# Altium footprint library CADDX_passthrough.PcbLib: 5 footprints
Each footprint in its own frame and in the unit in brackets; x right, y up, seen from the top. Pads: shape width x height; smd on the part's side, far side on the other; paste and mask are expansions set on the pad; w line width, h text height; cw(c..) or ccw(c..) is an arc to the next point about the centre after c.
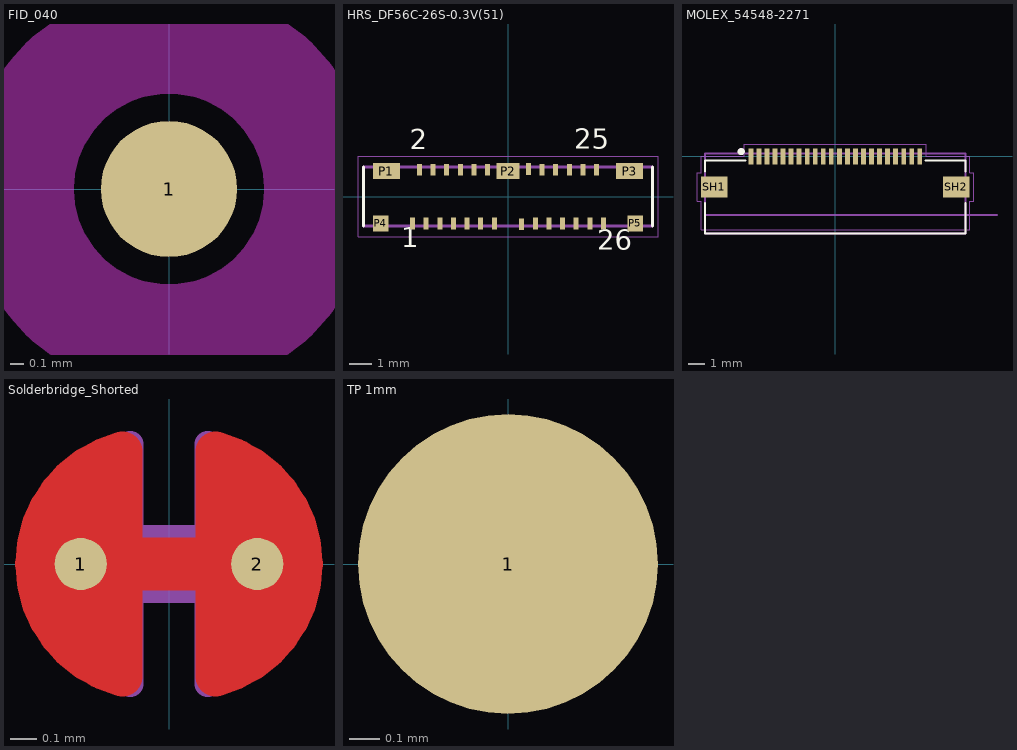
[diagram p0: the footprints below, top view; thin cyan lines are the x and y axes]

## FID_040 [mm]
height 1.3
pads (1):
  round 1 smd paste-1.5 mask+1: 1(0,0)
Top Layer keep-out:
  circle w0.8: c0,0 r1.1

## HRS_DF56C-26S-0.3V(51) [mm]
pads (31):
  rect 0.22x0.52 smd mask+0.051: 1(-4.2,-1.185) 2(-3.9,1.185) 3(-3.6,-1.185) 4(-3.3,1.185) 5(-3,-1.185) 6(-2.7,1.185) 7(-2.4,-1.185) 8(-2.1,1.185) 9(-1.8,-1.185) 10(-1.5,1.185) 11(-1.2,-1.185) 12(-0.9,1.185) 13(-0.6,-1.185) 14(0.6,-1.215) 15(0.9,1.215) 16(1.2,-1.185) 17(1.5,1.185) 18(1.8,-1.185) 19(2.1,1.185) 20(2.4,-1.185) 21(2.7,1.185) 22(3,-1.185) 23(3.3,1.185) 24(3.6,-1.185) 25(3.9,1.185) 26(4.2,-1.185)
  rect 1.2x0.7 smd mask+0.051: P1(-5.35,1.125) P3(5.35,1.125)
  rect 1x0.7 smd mask+0.051: P2(0,1.125)
  rect 0.7x0.7 smd mask+0.051: P4(-5.6,-1.175) P5(5.6,-1.175)
Top Overlay:
  lines w0.127: -6.35,-1.3 -6.35,1.3 ; 6.35,-1.3 6.35,1.3
  text "1" at -4.699,-2.54 h1.52
  text "2" at -4.319,1.778 h1.52
  text "25" at 2.92,1.795 h1.52
  text "26" at 3.936,-2.65 h1.52
Mechanical 13:
  lines w0.127: -6.35,-1.3 6.35,-1.3 6.35,1.3 -6.35,1.3 -6.35,-1.3
  text ".Designator" at -0.858,-0.372 h1.27
  text "1" at -4.699,-2.54 h1.52
  text "26" at 3.936,-2.65 h1.52
  text "2" at -4.319,1.778 h1.52
  text "25" at 2.92,1.795 h1.52
Mechanical 15:
  lines w0.05: -6.6,-1.775 6.6,-1.775 6.6,1.775 -6.6,1.775 -6.6,-1.775
3D body "df56c-26s-0_3v_51_.stp": height 1.49, standoff 0.04, extent -6.35,-1.3 6.35,1.3

## MOLEX_54548-2271 [mm]
pads (24):
  rect 0.3x1 smd mask+0.05: 1(-5.25,0) 2(-4.75,0) 3(-4.25,0) 4(-3.75,0) 5(-3.25,0) 6(-2.75,0) 7(-2.25,0) 8(-1.75,0) 9(-1.25,0) 10(-0.75,0) 11(-0.25,0) 12(0.25,0) 13(0.75,0) 14(1.25,0) 15(1.75,0) 16(2.25,0) 17(2.75,0) 18(3.25,0) 19(3.75,0) 20(4.25,0) 21(4.75,0) 22(5.25,0)
  rect 1.65x1.3 smd: SH1(-7.525,-1.9) SH2(7.525,-1.9)
Top Overlay:
  circle w0.3: c-5.85,0.3 r0.071
  lines w0.127: -8.1,-2.9 -8.1,-4.8 8.1,-4.8 8.1,-2.9 ; -8.1,-0.95 -8.1,-0.25 -5.6,-0.25 ; 5.6,-0.25 8.1,-0.25 8.1,-0.95
Top Courtyard:
  lines w0.05: -8.6,-2.8 -8.35,-2.8 -8.35,-4.55 8.35,-4.55 8.35,-2.8 8.6,-2.8 8.6,-1 8.35,-1 8.35,0 5.65,0 5.65,0.75 -5.65,0.75 -5.65,0 -8.35,0 -8.35,-1 -8.6,-1 -8.6,-2.8
Mechanical 13:
  circle w0.3: c-5.85,0.3 r0.071
  lines w0.127: -8.1,-3.65 8.1,-3.65 10.05,-3.65 ; -8.1,-4.8 -8.1,-3.15 -8.1,0.196 8.1,0.196 8.1,-3.15 8.1,-4.8 -8.1,-4.8
  text "Actuator Locked" at 8.588,-3.15 h1
  text ".Designator" at -0.15,-2.263 h1.27
3D body "545482271.stp": height 1.18, standoff -0.02, extent -8.1,-4.804 8.1,0.196

## Solderbridge_Shorted [mm]
pads (2):
  round 0.2 smd paste-10: 1(-0.338,0) 2(0.338,0)
Top Layer:
  region: 0.102,0.432 0.178,0.505 0.296,0.467 0.361,0.424 0.434,0.351 0.488,0.292 0.546,0.193 0.574,0.099 0.569,-0.122 0.544,-0.193 0.46,-0.33 0.376,-0.411 0.284,-0.469 0.183,-0.5 0.132,-0.483 0.102,-0.43
  region: -0.102,-0.432 -0.178,-0.505 -0.296,-0.467 -0.361,-0.424 -0.434,-0.351 -0.488,-0.292 -0.546,-0.193 -0.574,-0.099 -0.569,0.122 -0.544,0.193 -0.46,0.33 -0.376,0.411 -0.284,0.469 -0.183,0.5 -0.132,0.483 -0.102,0.43
  lines w0.152: -0.178,-0.431 cw(c-0.068,0) -0.178,0.431 ; 0.178,-0.431 ccw(c0.068,0) 0.178,0.431
  lines w0.203: -0.338,0 0.338,0
Top Solder:
  circle w0.61: c-0.028,0 r0.279
  circle w0.61: c0.028,0 r0.279
Mechanical 13:
  lines w0.1: -0.148,-0.459 cw(c-0.067,0) -0.148,0.459 -0.148,0.1 0.148,0.1 0.148,0.459 cw(c0.067,0) 0.148,-0.459 0.148,-0.1 -0.148,-0.1 -0.148,-0.459
  text ".Designator" at -0.097,-0.254 h0.8

## TP 1mm [mm] "1 mm Probe Pad"
pads (1):
  round 1 smd: 1(0,0)